# Altium schematic symbol library 4N35.SchLib: 1 symbol
Pins are listed as number, name and electrical type; pins without a type are passive.

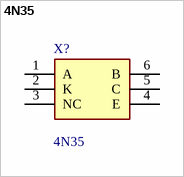
[diagram p0: symbol 4N35]

## 4N35
designator X?
Transistor Output Optocouplers Phototransistor Out; Manufacturer_Name: Vishay; Geometry.Height: 4.5mm; Mouser Part Number: 78-4N35; Mouser Price/Stock: https://www.mouser.co.uk/ProductDetail/Vishay-Semiconductors/4N35?qs=o4busQjUnQaG1dxXB%2Fpaxg%3D%3D; Manufacturer_Part_Number: 4N35; Datasheet Link: *
footprint DIP762W60P254L730H450Q6N
pins: 1 A, 2 K, 3 NC, 4 E, 5 C, 6 B